# EAGLE library part USB-C_CONNECTOR (library clackboard_lib)
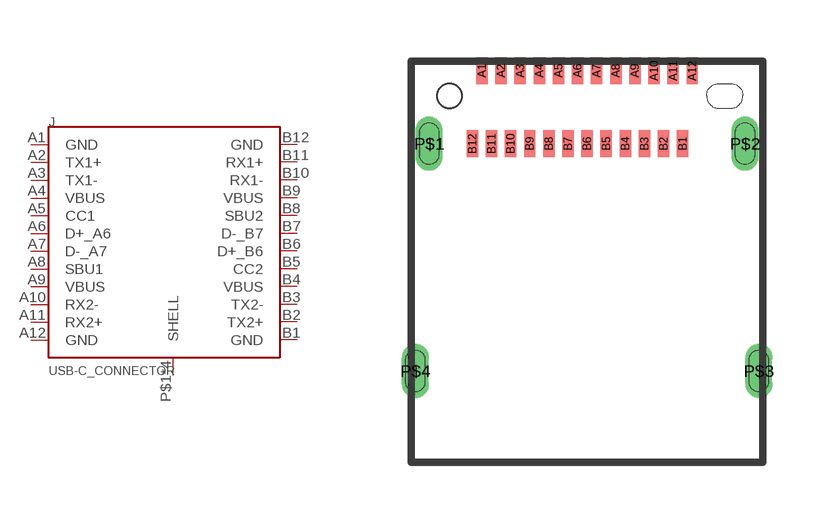
[diagram p18: symbol with the pads of 12401598E4#2A; footprint 12401598E4#2A]

Designator prefix J

## USB-C_CONNECTOR  [12401598E4#2A]
A1  GND
A2  TX1+
A3  TX1-
A4  VBUS
A5  CC1
A6  D+_A6
A7  D-_A7
A8  SBU1
A9  VBUS
A10  RX2-
A11  RX2+
A12  GND
B1  GND
B2  TX2+
B3  TX2-
B4  VBUS
B5  CC2
B6  D+_B6
B7  D-_B7
B8  SBU2
B9  VBUS
B10  RX1-
B11  RX1+
B12  GND
P$1  SHELL
P$2  SHELL
P$3  SHELL
P$4  SHELL

## Footprint 12401598E4#2A (pad centres in mm)
smd 0.3 x 0.7: A1 -2.75,0.66; A2 -2.25,0.66; A3 -1.75,0.66; A4 -1.25,0.66; A5 -0.75,0.66; A6 -0.25,0.66; A7 0.25,0.66; A8 0.75,0.66; A9 1.25,0.66; A10 1.75,0.66; A11 2.25,0.66; A12 2.75,0.66; B1 2.5,-1.25; B2 2,-1.25; B3 1.5,-1.25; B4 1,-1.25; B5 0.5,-1.25; B6 0,-1.25; B7 -0.5,-1.25; B8 -1,-1.25; B9 -1.5,-1.25; B10 -2,-1.25; B11 -2.5,-1.25; B12 -3,-1.25
drill 0.2 long: P$1 -4.13,-1.25; P$2 4.13,-1.25; P$3 4.49,-7.2; P$4 -4.49,-7.2
hole 0.65 at -3.6,0